# Altium footprint library SOT1061D.PcbLib: 1 footprints
Each footprint in its own frame and in the unit in brackets; x right, y up, seen from the top. Pads: shape width x height; smd on the part's side, far side on the other; paste and mask are expansions set on the pad; w line width, h text height; cw(c..) or ccw(c..) is an arc to the next point about the centre after c.
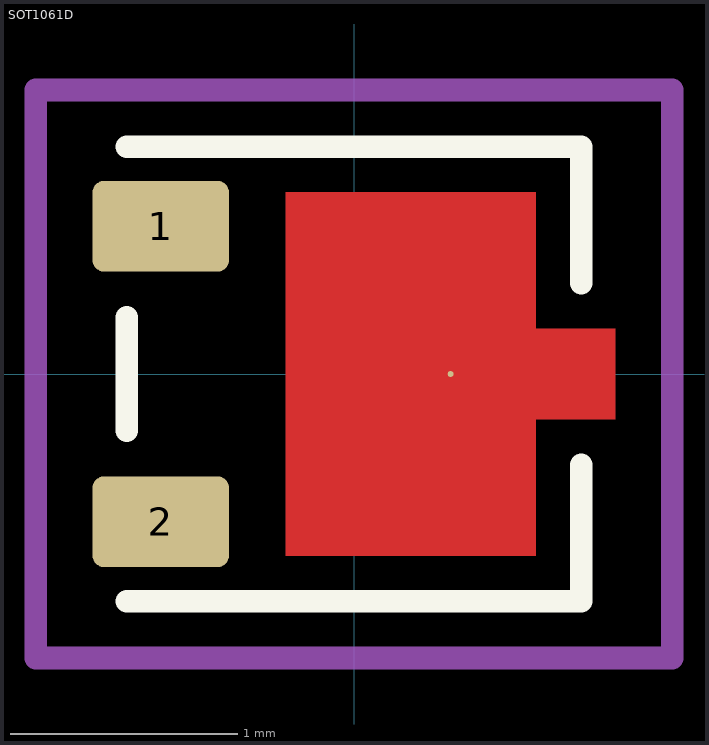
[diagram p0: the footprint, top view; thin cyan lines are the x and y axes]

## SOT1061D [mm]
pads (3):
  rrect25% 0.6x0.4 smd: 1(-0.85,0.65) 2(-0.85,-0.65)
  round 0.025 smd: 3(0.425,0)
Top Layer:
  region: -0.3,0.8 -0.3,-0.8 0.8,-0.8 0.8,-0.2 1.15,-0.2 1.15,0.2 0.8,0.2 0.8,0.8
Top Overlay:
  lines w0.1: -1,-1 1,-1 1,-0.4 ; -1,-0.25 -1,0.25 ; -1,1 1,1 1,0.4
Top Courtyard:
  lines w0.1: -1.4,-1.25 -1.4,1.25 1.4,1.25 1.4,-1.25 -1.4,-1.25
3D body "SOT1061D.step": height 0.62, standoff 0.01, extent -1.01,-1 1.01,1